# Altium footprint library QFN_DFN.PcbLib: 70 footprints (part 3 of 5)
Each footprint in its own frame and in the unit in brackets; x right, y up, seen from the top. Pads: shape width x height; smd on the part's side, far side on the other; paste and mask are expansions set on the pad; w line width, h text height; cw(c..) or ccw(c..) is an arc to the next point about the centre after c.
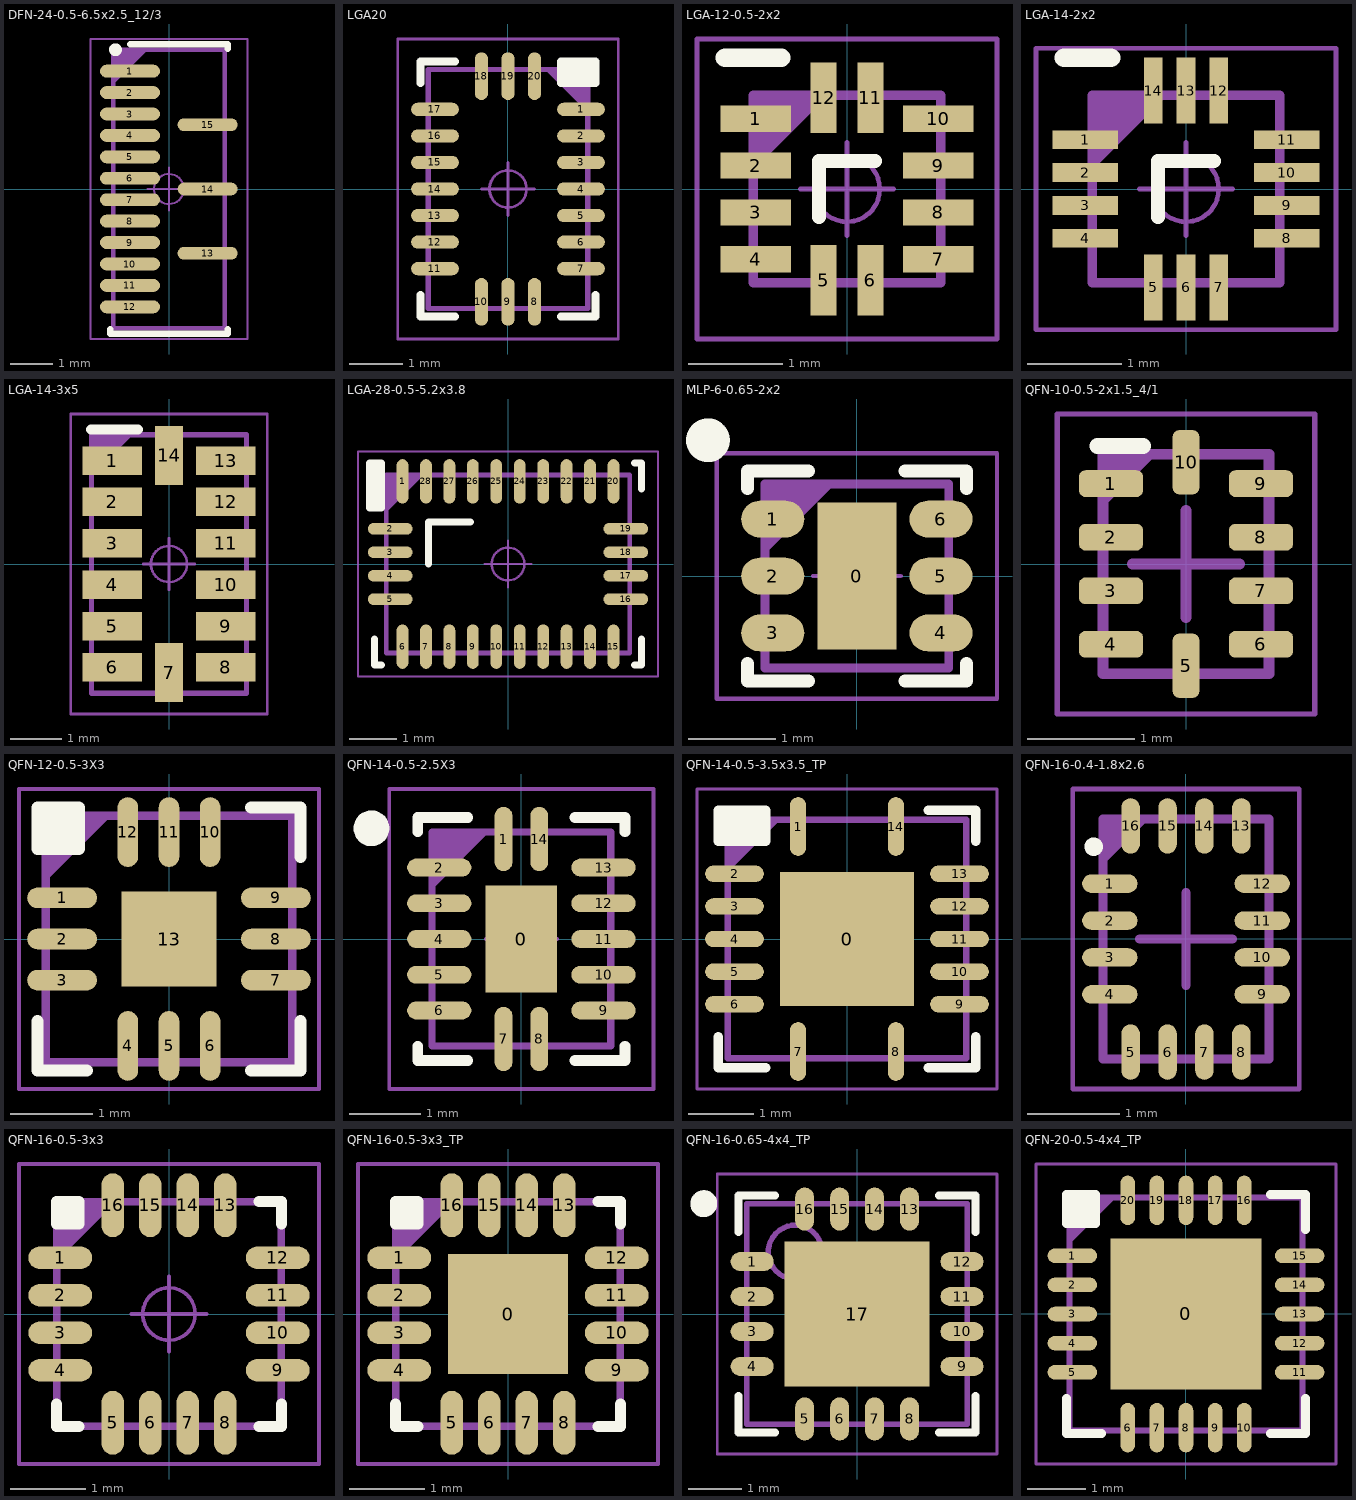
[diagram p2: the footprints below, top view; thin cyan lines are the x and y axes]

## DFN-24-0.5-6.5x2.5_12/3 [mm] "SON, 24-Leads, Body 6,50x2,50mm, Pitch 0,50mm, IPC Medium Density"
height 0.8
pads (15):
  oval 1.4x0.3 smd: 1(-0.91,2.75) 2(-0.91,2.25) 3(-0.91,1.75) 4(-0.91,1.25) 5(-0.91,0.75) 6(-0.91,0.25) 7(-0.91,-0.25) 8(-0.91,-0.75) 9(-0.91,-1.25) 10(-0.91,-1.75) 11(-0.91,-2.25) 12(-0.91,-2.75) 13(0.9,-1.5) 14(0.9,0) 15(0.9,1.5)
Top Overlay:
  circle w0.15: c-1.25,3.25 r0.075
  lines w0.15: -1.375,-3.275 -1.375,-3.375 1.375,-3.375 1.375,-3.275 ; -0.9,3.375 1.375,3.375 1.375,3.275
ASM Top:
  region: -1.3,3.25 -1.3,2.45 -0.5,3.25
  lines w0.1: -1.3,-3.25 -1.3,3.25 1.3,3.25 1.3,-3.25 -1.3,-3.25
  text ".Designator" at -0.6,-0.5 h0.7
PNP Top:
  circle w0.05: c0,0 r0.35
  lines w0.05: -0.5,0 0.5,0 ; 0,-0.5 0,0.5 ; -1.835,-3.5 -1.835,3.5 1.835,3.5 1.835,-3.5 -1.835,-3.5
3D body "SON50P250X80-24N.step": height 0.8, standoff 0, extent -1.33,-3.25 1.33,3.25

## LGA20 [mm] "QFN, 20-Leads, Body 3,00x4,50mm, Pitch 0,50mm, IPC Medium Density"
height 1
pads (20):
  oval 0.9x0.25 smd: 1(1.375,1.5) 2(1.375,1) 3(1.375,0.5) 4(1.375,0) 5(1.375,-0.5) 6(1.375,-1) 7(1.375,-1.5) 11(-1.375,-1.5) 12(-1.375,-1) 13(-1.375,-0.5) 14(-1.375,0) 15(-1.375,0.5) 16(-1.375,1) 17(-1.375,1.5)
  oval 0.25x0.9 smd: 8(0.5,-2.125) 9(0,-2.125) 10(-0.5,-2.125) 18(-0.5,2.125) 19(0,2.125) 20(0.5,2.125)
Top Overlay:
  lines w0.15: -1.65,-2 -1.65,-2.4 -1,-2.4 ; -1.65,2 -1.65,2.4 -1,2.4 ; 1,-2.4 1.65,-2.4 1.65,-2 ; 1,2.1 1.6,2.1 ; 1,2.2 1.6,2.2 ; 1,2.3 1.6,2.3 ; 1,2 1.65,2 1.65,2.4 1,2.4 1,2
ASM Top:
  region: 1.5,2.25 1.5,1.45 0.7,2.25
  lines w0.1: -1.5,-2.25 -1.5,2.25 1.5,2.25 1.5,-2.25 -1.5,-2.25
  text ".Designator" at -0.65,-0.3 h0.5
PNP Top:
  circle w0.05: c0,0 r0.35
  lines w0.05: -0.5,0 0.5,0 ; 0,-0.5 0,0.5 ; -2.075,-2.825 -2.075,2.825 2.075,2.825 2.075,-2.825 -2.075,-2.825
3D body "QFN50P300X450X100-20N.step": height 1, standoff 0, extent -1.55,-2.3 1.55,2.3

## LGA-12-0.5-2x2 [mm] "PQFN, 12-Leads, Body 2,00x2,00mm, Pitch 0,50mm, IPC Medium Density"
height 1
pads (12):
  rect 0.75x0.28 smd: 1(-0.975,0.75) 2(-0.975,0.25) 3(-0.975,-0.25) 4(-0.975,-0.75) 7(0.975,-0.75) 8(0.975,-0.25) 9(0.975,0.25) 10(0.975,0.75)
  rect 0.28x0.75 smd: 5(-0.25,-0.975) 6(0.25,-0.975) 11(0.25,0.975) 12(-0.25,0.975)
Top Overlay:
  lines w0.15: -0.3,-0.3 -0.3,0.3 0.3,0.3
  lines w0.2: -1.3,1.4 -0.7,1.4
ASM Top:
  region: -1,1 -1,0.2 -0.2,1
  lines w0.1: -1,-1 1,-1 1,1 -1,1 -1,-1
  text ".Designator" at -0.3,-0.4 h0.45
PNP Top:
  circle w0.05: c0,0 r0.35
  lines w0.05: -0.5,0 0.5,0 ; 0,-0.5 0,0.5 ; -1.6,-1.6 1.6,-1.6 1.6,1.6 -1.6,1.6 -1.6,-1.6
3D body "PQFN50P200X200X100-12N.step": height 1, standoff 0, extent -1,-1 1,1

## LGA-14-2x2 [mm] "PQFN, 14-Leads, Body 2,00x2,00mm, Pitch 0,35mm, IPC Medium Density"
height 1
pads (14):
  rect 0.7x0.2 smd: 1(-1.075,0.525) 2(-1.075,0.175) 3(-1.075,-0.175) 4(-1.075,-0.525) 8(1.075,-0.525) 9(1.075,-0.175) 10(1.075,0.175) 11(1.075,0.525)
  rect 0.2x0.7 smd: 5(-0.35,-1.05) 6(0,-1.05) 7(0.35,-1.05) 12(0.35,1.05) 13(0,1.05) 14(-0.35,1.05)
Top Overlay:
  lines w0.15: -0.3,-0.3 -0.3,0.3 0.3,0.3
  lines w0.2: -1.3,1.4 -0.8,1.4
ASM Top:
  region: -1,1 -1,0.2 -0.2,1
  lines w0.1: -1,-1 -1,1 1,1 1,-1 -1,-1
  text ".Designator" at -0.1,-0.4 h0.4
PNP Top:
  circle w0.05: c0,0 r0.35
  lines w0.05: -0.5,0 0.5,0 ; 0,-0.5 0,0.5 ; -1.6,-1.5 -1.6,1.5 1.6,1.5 1.6,-1.5 -1.6,-1.5
3D body "PQFN35P200X200X100-14N.step": height 1, standoff 0, extent -1,-1 1,1

## LGA-14-3x5 [mm] "PQFN, 14-Leads, Body 2,00x2,00mm, Pitch 0,35mm, IPC Medium Density"
height 1
pads (14):
  rect 1.145x0.55 smd: 1(-1.097,2) 2(-1.097,1.2) 3(-1.097,0.4) 4(-1.097,-0.4) 5(-1.097,-1.2) 6(-1.097,-2) 8(1.098,-2) 9(1.098,-1.2) 10(1.098,-0.4) 11(1.098,0.4) 12(1.098,1.2) 13(1.098,2)
  rect 0.55x1.145 smd: 7(0,-2.1) 14(0,2.1)
Top Overlay:
  lines w0.2: -1.5,2.6 -0.6,2.6
ASM Top:
  region: -1.5,2.5 -1.5,1.7 -0.7,2.5
  lines w0.1: -1.5,-2.5 1.5,-2.5 1.5,2.5 -1.5,2.5 -1.5,-2.5
  text ".Designator" at -0.6,-0.3 h0.5
PNP Top:
  circle w0.05: c0,0 r0.35
  lines w0.05: -0.5,0 0.5,0 ; 0,-0.5 0,0.5 ; -1.9,-2.9 1.9,-2.9 1.9,2.9 -1.9,2.9 -1.9,-2.9
3D body "User Library-ADXL345.STEP": height 1, standoff 0, extent -1.5,-2.5 1.5,2.5

## LGA-28-0.5-5.2x3.8 [mm] "PQFN, 28-Leads, Body 5,20x3,80mm, Pitch 0,50mm, IPC Medium Density"
height 1
pads (28):
  oval 0.25x0.95 smd: 1(-2.25,1.763) 6(-2.25,-1.762) 7(-1.75,-1.762) 8(-1.25,-1.762) 9(-0.75,-1.762) 10(-0.25,-1.762) 11(0.25,-1.762) 12(0.75,-1.762) 13(1.25,-1.762) 14(1.75,-1.762) 15(2.25,-1.762) 20(2.25,1.763) 21(1.75,1.763) 22(1.25,1.763) 23(0.75,1.763) 24(0.25,1.763) 25(-0.25,1.763) 26(-0.75,1.763) 27(-1.25,1.763) 28(-1.75,1.763)
  oval 0.95x0.25 smd: 2(-2.512,0.75) 3(-2.512,0.25) 4(-2.512,-0.25) 5(-2.512,-0.75) 16(2.513,-0.75) 17(2.513,-0.25) 18(2.513,0.25) 19(2.513,0.75)
Top Overlay:
  lines w0.15: -2.85,-1.6 -2.85,-2.15 -2.7,-2.15 ; -2.825,1.2 -2.825,2.15 ; -1.7,0 -1.7,0.9 -0.8,0.9 ; 2.7,-2.15 2.85,-2.15 2.85,-1.6 ; 2.7,2.15 2.85,2.15 2.85,1.6 ; -2.95,1.2 -2.7,1.2 -2.7,2.15 -2.95,2.15 -2.95,1.2
ASM Top:
  region: -2.6,1.9 -2.6,1.1 -1.8,1.9
  lines w0.1: -2.6,-1.9 2.6,-1.9 2.6,1.9 -2.6,1.9 -2.6,-1.9
  text ".Designator" at -1.15,-0.1 h0.5
PNP Top:
  circle w0.05: c0,0 r0.35
  lines w0.05: -0.5,0 0.5,0 ; 0,-0.5 0,0.5 ; -3.2,-2.4 3.2,-2.4 3.2,2.4 -3.2,2.4 -3.2,-2.4
3D body "PQFN50P520X380X100-28N.step": height 1, standoff 0, extent -2.6,-1.9 2.6,1.9

## MLP-6-0.65-2x2 [mm]
height 0.85
pads (7):
  rect 0.9x1.68 smd: 0(0,0)
  oval 0.72x0.42 smd: 1(-0.96,0.65) 2(-0.96,0) 3(-0.96,-0.65) 4(0.96,-0.65) 5(0.96,0) 6(0.96,0.65)
Top Overlay:
  circle w0.25: c-1.7,1.55 r0.125
  lines w0.15: -1.25,-1 -1.25,-1.2 -0.55,-1.2 ; -1.25,1 -1.25,1.2 -0.55,1.2 ; 0.55,-1.2 1.25,-1.2 1.25,-1 ; 0.55,1.2 1.25,1.2 1.25,1
ASM Top:
  region: -1.05,1.05 -1.05,0.25 -0.25,1.05
  lines w0.1: -1.05,-1.05 1.05,-1.05 1.05,1.05 -1.05,1.05 -1.05,-1.05
  text ".Designator" at -0.5,-0.5 h0.5
PNP Top:
  circle w0.05: c0,0 r0.35
  lines w0.05: -0.5,0 0.5,0 ; 0,-0.5 0,0.5 ; -1.6,-1.4 1.6,-1.4 1.6,1.4 -1.6,1.4 -1.6,-1.4
3D body: height 0.85, standoff 0.05, extent -1.05,-1.05 1.05,1.05

## QFN-10-0.5-2x1.5_4/1 [mm] "QFN, 10-Leads, Body 1,50x2,00mm, Pitch 0,50mm, IPC Medium Density"
height 0.6
pads (10):
  rrect50% 0.6x0.25 smd: 1(-0.7,0.75) 2(-0.7,0.25) 3(-0.7,-0.25) 4(-0.7,-0.75) 6(0.7,-0.75) 7(0.7,-0.25) 8(0.7,0.25) 9(0.7,0.75)
  rrect50% 0.25x0.6 smd: 5(0,-0.95) 10(0,0.95)
Top Overlay:
  lines w0.15: -0.825,1.1 -0.4,1.1
ASM Top:
  region: -0.775,1.025 -0.275,1.025 -0.775,0.525
  lines w0.1: -0.775,-1.025 0.775,-1.025 0.775,1.025 -0.775,1.025 -0.775,-1.025
PNP Top:
  lines w0.05: -1.2,-1.4 1.2,-1.4 1.2,1.4 -1.2,1.4 -1.2,-1.4
  lines w0.1: -0.5,0 0.5,0 ; 0,-0.5 0,0.5
3D body "QFN50P150X200X60-10N.step": height 0.6, standoff 0, extent -0.825,-1.075 0.825,1.075

## QFN-12-0.5-3X3 [mm] "QFN, 12-Leads, Body 3,00x3,00mm, Pitch 0,50mm, Thermal Pad 1,10x1,10mm, IPC High Density"
height 0.75
pads (13):
  oval 0.85x0.25 smd: 1(-1.3,0.5) 2(-1.3,0) 3(-1.3,-0.5) 7(1.3,-0.5) 8(1.3,0) 9(1.3,0.5)
  oval 0.25x0.85 smd: 4(-0.5,-1.3) 5(0,-1.3) 6(0.5,-1.3) 10(0.5,1.3) 11(0,1.3) 12(-0.5,1.3)
  rect 1.15x1.15 smd: 13(0,0)
Top Overlay:
  lines w0.15: -1.6,-1 -1.6,-1.6 -1,-1.6 ; -1.5,1.2 -1.5,1.6 ; -1.4,1.1 -1.4,1.6 ; -1.3,1.2 -1.3,1.6 ; -1.2,1.2 -1.2,1.6 ; 1,-1.6 1.6,-1.6 1.6,-1 ; 1,1.6 1.6,1.6 1.6,1 ; -1.6,1.1 -1.6,1.6 -1.1,1.6 -1.1,1.1 -1.6,1.1
ASM Top:
  region: -1.5,1.5 -1.5,0.7 -0.7,1.5
  lines w0.1: -1.5,-1.5 1.5,-1.5 1.5,1.5 -1.5,1.5 -1.5,-1.5
  text ".Designator" at -0.8,-0.3 h0.5
PNP Top:
  circle w0.05: c0,0 r0.35
  lines w0.05: -0.5,0 0.5,0 ; 0,-0.5 0,0.5 ; -1.825,-1.825 1.825,-1.825 1.825,1.825 -1.825,1.825 -1.825,-1.825
3D body "QFN50P300X300X75_HS-13L.step": height 0.75, standoff 0, extent -1.55,-1.55 1.55,1.55

## QFN-14-0.5-2.5X3 [mm] "QFN, 14-Leads, Body 2,50x3,00mm, Pitch 0,50mm, Thermal Pad 1,00x1,50mm, IPC Medium Density"
height 1
pads (15):
  rect 1x1.5 smd: 0(0,0)
  oval 0.25x0.9 smd: 1(-0.25,1.4) 7(-0.25,-1.4) 8(0.25,-1.4) 14(0.25,1.4)
  oval 0.9x0.25 smd: 2(-1.15,1) 3(-1.15,0.5) 4(-1.15,0) 5(-1.15,-0.5) 6(-1.15,-1) 9(1.15,-1) 10(1.15,-0.5) 11(1.15,0) 12(1.15,0.5) 13(1.15,1)
Top Overlay:
  circle w0.25: c-2.1,1.55 r0.125
  lines w0.15: -1.45,-1.5 -1.45,-1.7 -0.75,-1.7 ; -1.45,1.5 -1.45,1.7 -0.75,1.7 ; 0.75,-1.7 1.45,-1.7 1.45,-1.5 ; 0.75,1.7 1.45,1.7 1.45,1.5
ASM Top:
  region: -1.25,1.5 -1.25,0.7 -0.45,1.5
  lines w0.1: -1.25,-1.5 1.25,-1.5 1.25,1.5 -1.25,1.5 -1.25,-1.5
  text ".Designator" at -0.85,-0.3 h0.5
PNP Top:
  circle w0.05: c0,0 r0.35
  lines w0.05: -0.5,0 0.5,0 ; 0,-0.5 0,0.5 ; -1.85,-2.1 1.85,-2.1 1.85,2.1 -1.85,2.1 -1.85,-2.1
3D body "User Library-SOT-762-1 (DHVQFN14).step": height 1, standoff 0, extent -1.25,-1.5 1.25,1.5

## QFN-14-0.5-3.5x3.5_TP [mm] "QFN, 14-Leads, Body 3,50x3,50mm, Pitch 1,50mm/0,50mm, Thermal Pad 2,05x2,05mm, IPC Medium Density"
height 1
pads (15):
  rect 2.05x2.05 smd: 0(0,0)
  oval 0.25x0.9 smd: 1(-0.75,1.725) 7(-0.75,-1.725) 8(0.75,-1.725) 14(0.75,1.725)
  oval 0.9x0.25 smd: 2(-1.725,1) 3(-1.725,0.5) 4(-1.725,0) 5(-1.725,-0.5) 6(-1.725,-1) 9(1.725,-1) 10(1.725,-0.5) 11(1.725,0) 12(1.725,0.5) 13(1.725,1)
Top Overlay:
  rectangle: -1.975,1.5 -1.25,1.975
  lines w0.15: -1.975,-1.5 -1.975,-1.975 -1.25,-1.975 ; 1.25,-1.975 1.975,-1.975 1.975,-1.5 ; 1.25,1.975 1.975,1.975 1.975,1.5 ; -1.975,1.5 -1.975,1.975 -1.25,1.975 -1.25,1.5 -1.975,1.5
ASM Top:
  region: -1.825,1.825 -1.825,1.025 -1.025,1.825
  lines w0.1: -1.825,-1.825 1.825,-1.825 1.825,1.825 -1.825,1.825 -1.825,-1.825
  text ".Designator" at -0.75,-0.3 h0.5
PNP Top:
  circle w0.05: c0,0 r0.35
  lines w0.05: -0.5,0 0.5,0 ; 0,-0.5 0,0.5 ; -2.3,-2.3 2.3,-2.3 2.3,2.3 -2.3,2.3 -2.3,-2.3
3D body "QFN50P350X350X100_HS-15N.step": height 1, standoff 0, extent -1.905,-1.905 1.905,1.905

## QFN-16-0.4-1.8x2.6 [mm] "QFN, 16-Leads, Body 1,80x2,60mm, Pitch 0,40mm, IPC High Density"
height 0.5
pads (16):
  oval 0.6x0.2 smd: 1(-0.825,0.6) 2(-0.825,0.2) 3(-0.825,-0.2) 4(-0.825,-0.6) 9(0.825,-0.6) 10(0.825,-0.2) 11(0.825,0.2) 12(0.825,0.6)
  oval 0.2x0.6 smd: 5(-0.6,-1.225) 6(-0.2,-1.225) 7(0.2,-1.225) 8(0.6,-1.225) 13(0.6,1.225) 14(0.2,1.225) 15(-0.2,1.225) 16(-0.6,1.225)
Top Overlay:
  circle w0.1: c-1,1 r0.05
ASM Top:
  region: -0.9,1.3 -0.4,1.3 -0.9,0.8
  lines w0.1: -0.9,-1.3 0.9,-1.3 0.9,1.3 -0.9,1.3 -0.9,-1.3
PNP Top:
  lines w0.05: -1.225,-1.625 1.225,-1.625 1.225,1.625 -1.225,1.625 -1.225,-1.625
  lines w0.1: -0.5,0 0.5,0 ; 0,-0.5 0,0.5
3D body "QFN40P180X260X50-16L.step": height 0.5, standoff 0, extent -0.91,-1.31 0.91,1.31

## QFN-16-0.5-3x3 [mm]
pads (16):
  oval 0.85x0.3 smd: 1(-1.45,0.75) 2(-1.45,0.25) 3(-1.45,-0.25) 4(-1.45,-0.75) 9(1.45,-0.75) 10(1.45,-0.25) 11(1.45,0.25) 12(1.45,0.75)
  oval 0.3x0.85 smd: 5(-0.75,-1.45) 6(-0.25,-1.45) 7(0.25,-1.45) 8(0.75,-1.45) 13(0.75,1.45) 14(0.25,1.45) 15(-0.25,1.45) 16(-0.75,1.45)
Top Overlay:
  lines w0.15: -1.5,-1.2 -1.5,-1.5 -1.2,-1.5 ; -1.35,1.2 -1.35,1.5 ; 1.2,-1.5 1.5,-1.5 1.5,-1.2 ; 1.2,1.5 1.5,1.5 1.5,1.2 ; -1.5,1.2 -1.5,1.5 -1.2,1.5 -1.2,1.2 -1.5,1.2
ASM Top:
  region: -1.5,1.5 -1.5,0.7 -0.7,1.5
  lines w0.1: -1.5,-1.5 -1.5,1.5 1.5,1.5 1.5,-1.5 -1.5,-1.5
  text ".Designator" at -1,-0.3 h0.5
PNP Top:
  circle w0.05: c0,0 r0.35
  lines w0.05: -0.5,0 0.5,0 ; 0,-0.5 0,0.5 ; -2,-2 -2,2 2,2 2,-2 -2,-2
3D body "QFN-16-0.5.step": height 0.92, standoff 0, extent -1.5,-1.5 1.5,1.5

## QFN-16-0.5-3x3_TP [mm]
pads (17):
  rect 1.6x1.6 smd: 0(0,0)
  oval 0.85x0.3 smd: 1(-1.45,0.75) 2(-1.45,0.25) 3(-1.45,-0.25) 4(-1.45,-0.75) 9(1.45,-0.75) 10(1.45,-0.25) 11(1.45,0.25) 12(1.45,0.75)
  oval 0.3x0.85 smd: 5(-0.75,-1.45) 6(-0.25,-1.45) 7(0.25,-1.45) 8(0.75,-1.45) 13(0.75,1.45) 14(0.25,1.45) 15(-0.25,1.45) 16(-0.75,1.45)
Top Overlay:
  lines w0.15: -1.5,-1.2 -1.5,-1.5 -1.2,-1.5 ; -1.35,1.2 -1.35,1.5 ; 1.2,-1.5 1.5,-1.5 1.5,-1.2 ; 1.2,1.5 1.5,1.5 1.5,1.2 ; -1.5,1.2 -1.2,1.2 -1.2,1.5 -1.5,1.5 -1.5,1.2
ASM Top:
  region: -1.5,1.5 -1.5,0.7 -0.7,1.5
  lines w0.1: -1.5,-1.5 -1.5,1.5 1.5,1.5 1.5,-1.5 -1.5,-1.5
  text ".Designator" at -0.7,-0.1 h0.5
PNP Top:
  circle w0.05: c0,0 r0.35
  lines w0.05: -0.5,0 0.5,0 ; 0,-0.5 0,0.5 ; -2,-2 2,-2 2,2 -2,2 -2,-2
3D body "QFN-16-0.5.step": height 0.92, standoff 0, extent -1.5,-1.5 1.5,1.5

## QFN-16-0.65-4x4_TP [mm] "QFN, 16-Leads, Body 4,00x4,00mm, Pitch 0,65mm, Thermal Pad 2,70x2,70mm, IPC Medium Density"
height 1
pads (17):
  oval 0.8x0.35 smd: 1(-1.95,0.975) 2(-1.95,0.325) 3(-1.95,-0.325) 4(-1.95,-0.975) 9(1.95,-0.975) 10(1.95,-0.325) 11(1.95,0.325) 12(1.95,0.975)
  oval 0.35x0.8 smd: 5(-0.975,-1.95) 6(-0.325,-1.95) 7(0.325,-1.95) 8(0.975,-1.95) 13(0.975,1.95) 14(0.325,1.95) 15(-0.325,1.95) 16(-0.975,1.95)
  rect 2.7x2.7 smd: 17(0,0)
Top Overlay:
  circle w0.25: c-2.85,2.05 r0.125
  lines w0.15: -2.2,-1.525 -2.2,-2.2 -1.525,-2.2 ; -2.2,1.525 -2.2,2.2 -1.525,2.2 ; 1.525,-2.2 2.2,-2.2 2.2,-1.525 ; 1.525,2.2 2.2,2.2 2.2,1.525
3D Top:
  circle w0.1: c-1.15,1.15 r0.5
  lines w0.1: -2.05,-2.05 2.05,-2.05 2.05,2.05 -2.05,2.05 -2.05,-2.05
PNP Top:
  lines w0.05: -2.6,-2.6 2.6,-2.6 2.6,2.6 -2.6,2.6 -2.6,-2.6
  lines w0.1: -0.5,0 0.5,0 ; 0,-0.5 0,0.5
3D body "QFN65P400X400X100_HS-17N.step": height 1, standoff 0, extent -2.06,-2.06 2.06,2.06

## QFN-20-0.5-4x4_TP [mm] "QFN, 20-Leads, Body 4,00x4,00mm, Pitch 0,50mm, Thermal Pad 2,60x2,60mm, IPC Medium Density"
height 0.85
pads (21):
  rect 2.6x2.6 smd: 0(0,0)
  oval 0.85x0.25 smd: 1(-1.95,1) 2(-1.95,0.5) 3(-1.95,0) 4(-1.95,-0.5) 5(-1.95,-1) 11(1.95,-1) 12(1.95,-0.5) 13(1.95,0) 14(1.95,0.5) 15(1.95,1)
  oval 0.25x0.85 smd: 6(-1,-1.95) 7(-0.5,-1.95) 8(0,-1.95) 9(0.5,-1.95) 10(1,-1.95) 16(1,1.95) 17(0.5,1.95) 18(0,1.95) 19(-0.5,1.95) 20(-1,1.95)
Top Overlay:
  lines w0.15: -2.05,-1.45 -2.05,-2.05 -1.45,-2.05 ; -1.9,1.55 -1.9,2.05 ; -1.75,1.55 -1.75,2.05 ; -1.65,1.55 -1.65,2.05 ; 1.45,-2.05 2.05,-2.05 2.05,-1.45 ; 1.45,2.05 2.05,2.05 2.05,1.45 ; -2.05,1.55 -2.05,2.05 -1.55,2.05 -1.55,1.55 -2.05,1.55
ASM Top:
  region: -2,2 -2,1.2 -1.2,2
  lines w0.1: -2,-2 -2,2 2,2 2,-2 -2,-2
  text ".Designator" at -0.7,-0.2 h0.5
PNP Top:
  circle w0.05: c0,0 r0.35
  lines w0.05: -0.5,0 0.5,0 ; 0,-0.5 0,0.5 ; -2.575,-2.575 -2.575,2.575 2.575,2.575 2.575,-2.575 -2.575,-2.575
3D body "QFN50P400X400X85_HS-21N.step": height 0.85, standoff 0, extent -2.02,-2.02 2.02,2.02